# EAGLE library part HDSP4403 (library display-hp)
LED DISPLAY 1-character dot matrix without decimal point
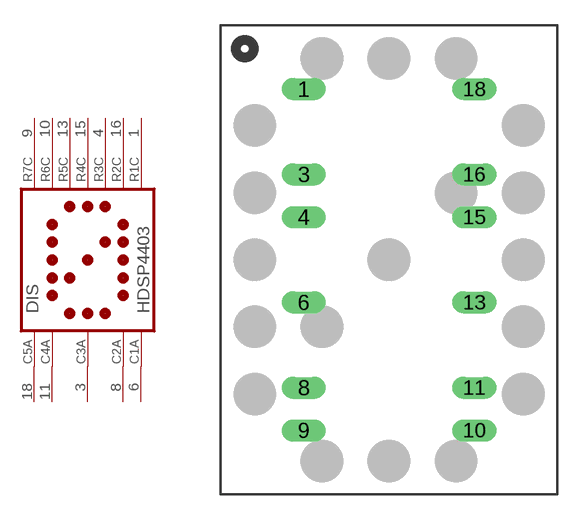
[diagram p5: symbol with the pads of HDSP44; footprint HDSP44]

Designator prefix DIS

## HDSP4403 (OC_FARNELL: unknown; OC_NEWARK: unknown)  [HDSP44]
1  R1C  pas
3  C3A  pas
4  R3C  pas
6  C1A  pas
8  C2A  pas
9  R7C  pas
10  R6C  pas
11  C4A  pas
13  R5C  pas
15  R4C  pas
16  R2C  pas
18  C5A  pas

## Footprint HDSP44 (pad centres in mm)
LED DISPLAY 27-mm 1 character dot matrix without decimal point
drill 0.813 long: 1 -5.08,10.16; 3 -5.08,5.08; 4 -5.08,2.54; 6 -5.08,-2.54; 8 -5.08,-7.62; 9 -5.08,-10.16; 10 5.08,-10.16; 11 5.08,-7.62; 13 5.08,-2.54; 15 5.08,2.54; 16 5.08,5.08; 18 5.08,10.16